# Altium footprint library Self_Sensing_Library.PcbLib: 24 footprints (part 2 of 2)
Each footprint in its own frame and in the unit in brackets; x right, y up, seen from the top. Pads: shape width x height; smd on the part's side, far side on the other; paste and mask are expansions set on the pad; w line width, h text height; cw(c..) or ccw(c..) is an arc to the next point about the centre after c.
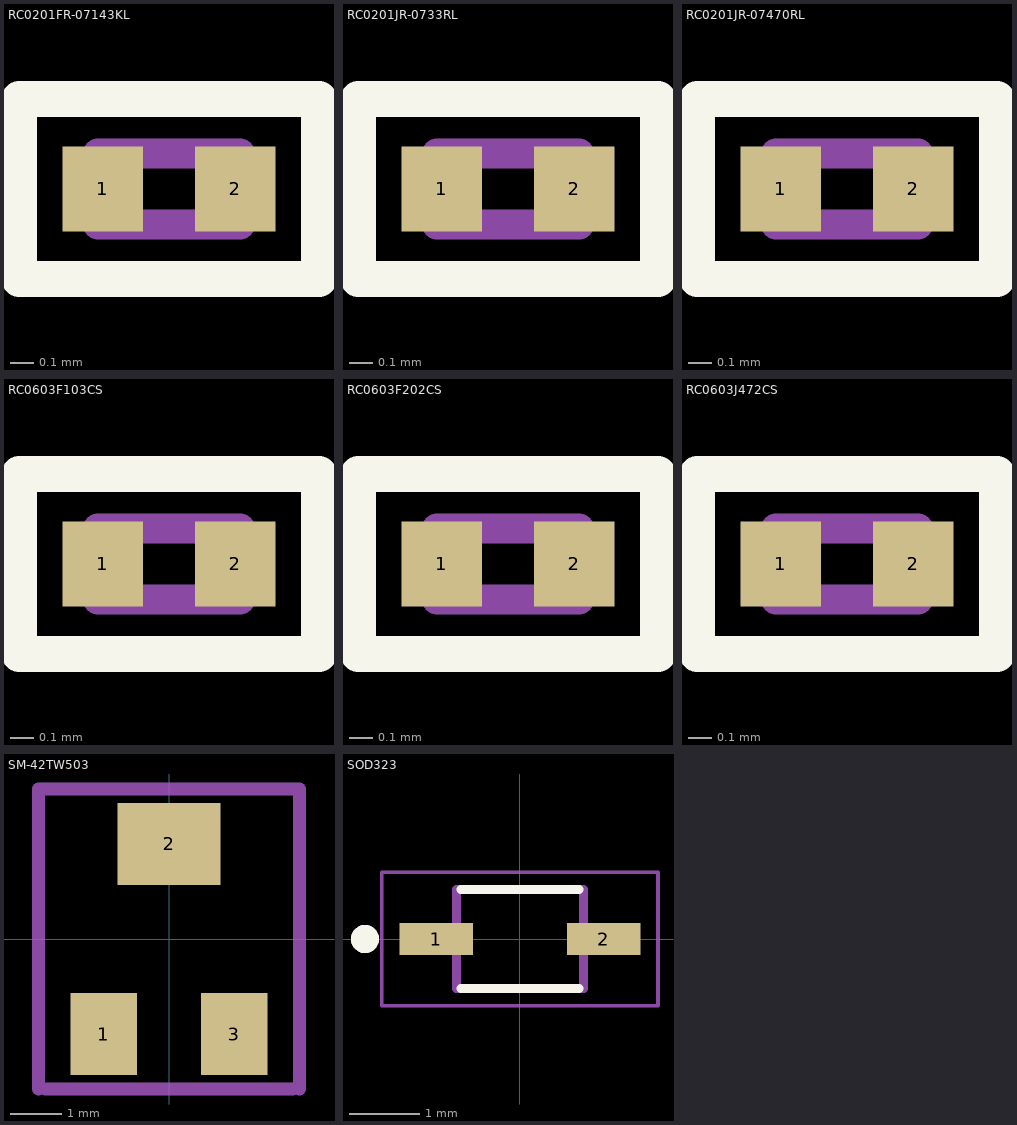
[diagram p1: the footprints below, top view; thin cyan lines are the x and y axes]

## RC0201FR-07143KL [mm]
pads (2):
  rect 0.34x0.36 smd: 1(7.975,14.351) 2(8.535,14.351)
Top Overlay:
  lines w0.152: 7.62,13.97 8.89,13.97 8.89,14.732 7.62,14.732 7.62,13.97
Mechanical 1:
  region: 7.954,14.451 8.055,14.451 8.055,14.251 7.954,14.251
  region: 8.456,14.451 8.555,14.451 8.555,14.251 8.456,14.251
  lines w0.127: 7.955,14.201 8.555,14.201 8.555,14.501 7.955,14.501 7.955,14.201
3D body "Resistor_0201.STEP": height 0.34, standoff 0, extent 7.915,14.186 8.595,14.516

## RC0201JR-0733RL [mm]
pads (2):
  rect 0.34x0.36 smd: 1(7.975,14.351) 2(8.535,14.351)
Top Overlay:
  lines w0.152: 7.62,13.97 7.62,14.732 8.89,14.732 8.89,13.97 7.62,13.97
Mechanical 1:
  region: 8.456,14.451 8.555,14.451 8.555,14.251 8.456,14.251
  region: 7.954,14.451 8.055,14.451 8.055,14.251 7.954,14.251
  lines w0.127: 7.955,14.201 7.955,14.501 8.555,14.501 8.555,14.201 7.955,14.201
3D body "Resistor_0201.STEP": height 0.34, standoff 0, extent 7.915,14.186 8.595,14.516

## RC0201JR-07470RL [mm]
pads (2):
  rect 0.34x0.36 smd: 1(7.975,14.351) 2(8.535,14.351)
Top Overlay:
  lines w0.152: 7.62,13.97 8.89,13.97 8.89,14.732 7.62,14.732 7.62,13.97
Mechanical 1:
  region: 7.954,14.451 8.055,14.451 8.055,14.251 7.954,14.251
  region: 8.456,14.451 8.555,14.451 8.555,14.251 8.456,14.251
  lines w0.127: 7.955,14.201 8.555,14.201 8.555,14.501 7.955,14.501 7.955,14.201
3D body "Resistor_0201.STEP": height 0.34, standoff 0, extent 7.915,14.186 8.595,14.516

## RC0603F103CS [mm]
pads (2):
  rect 0.34x0.36 smd: 1(7.975,14.351) 2(8.535,14.351)
Top Overlay:
  lines w0.152: 7.62,13.97 8.89,13.97 8.89,14.732 7.62,14.732 7.62,13.97
Mechanical 1:
  region: 8.456,14.451 8.555,14.451 8.555,14.251 8.456,14.251
  region: 7.954,14.451 8.055,14.451 8.055,14.251 7.954,14.251
  lines w0.127: 7.955,14.201 7.955,14.501 8.555,14.501 8.555,14.201 7.955,14.201
3D body "Resistor_0201.STEP": height 0.34, standoff 0, extent 7.915,14.186 8.595,14.516

## RC0603F202CS [mm]
pads (2):
  rect 0.34x0.36 smd: 1(7.975,14.351) 2(8.535,14.351)
Top Overlay:
  lines w0.152: 7.62,13.97 7.62,14.732 8.89,14.732 8.89,13.97 7.62,13.97
Mechanical 1:
  region: 8.456,14.451 8.555,14.451 8.555,14.251 8.456,14.251
  region: 7.954,14.451 8.055,14.451 8.055,14.251 7.954,14.251
  lines w0.127: 7.955,14.201 7.955,14.501 8.555,14.501 8.555,14.201 7.955,14.201
3D body "Resistor_0201.STEP": height 0.34, standoff 0, extent 7.915,14.186 8.595,14.516

## RC0603J472CS [mm]
pads (2):
  rect 0.34x0.36 smd: 1(7.975,14.351) 2(8.535,14.351)
Top Overlay:
  lines w0.152: 7.62,13.97 8.89,13.97 8.89,14.732 7.62,14.732 7.62,13.97
Mechanical 1:
  region: 7.954,14.451 8.055,14.451 8.055,14.251 7.954,14.251
  region: 8.456,14.451 8.555,14.451 8.555,14.251 8.456,14.251
  lines w0.127: 7.955,14.201 8.555,14.201 8.555,14.501 7.955,14.501 7.955,14.201
3D body "Resistor_0201.STEP": height 0.34, standoff 0, extent 7.915,14.186 8.595,14.516

## SM-42TW503 [mm]
pads (3):
  rect 1.3x1.6 smd: 1(-1.27,-1.85) 3(1.27,-1.85)
  rect 2x1.6 smd: 2(0,1.85)
Mechanical 1:
  lines w0.254: -2.54,-2.921 -2.54,2.921 2.54,2.921 2.54,-2.921 ; -2.4,-2.921 2.4,-2.921
3D body "SM-42TW.stp": height 5.28, standoff -0.02, extent -2.4,-1.95 2.4,1.95

## SOD323 [mm]
pads (2):
  rect 1.04x0.46 smd: 1(-1.19,0) 2(1.19,0)
Top Overlay:
  circle w0.2: c-2.2,0 r0.1
  lines w0.127: -0.84,-0.7 0.84,-0.7 ; -0.84,0.7 0.84,0.7
Mechanical 4:
  circle w0.2: c-2.2,0 r0.1
  circle w0.2: c-2.2,0 r0.1
  lines w0.127: -0.9,-0.7 -0.9,0.7 ; -0.9,-0.7 0.9,-0.7 ; -0.9,-0.7 -0.9,0.7 ; -0.9,-0.7 0.9,-0.7 ; -0.9,0.7 0.9,0.7 ; -0.9,0.7 0.9,0.7 ; 0.9,-0.7 0.9,0.7 ; 0.9,-0.7 0.9,0.7
Mechanical 16:
  lines w0.05: -1.96,-0.95 -1.96,0.95 1.96,0.95 1.96,-0.95 -1.96,-0.95